# Altium footprint library TO-220.PcbLib: 1 footprints
Each footprint in its own frame and in the unit in brackets; x right, y up, seen from the top. Pads: shape width x height; smd on the part's side, far side on the other; paste and mask are expansions set on the pad; w line width, h text height; cw(c..) or ccw(c..) is an arc to the next point about the centre after c.
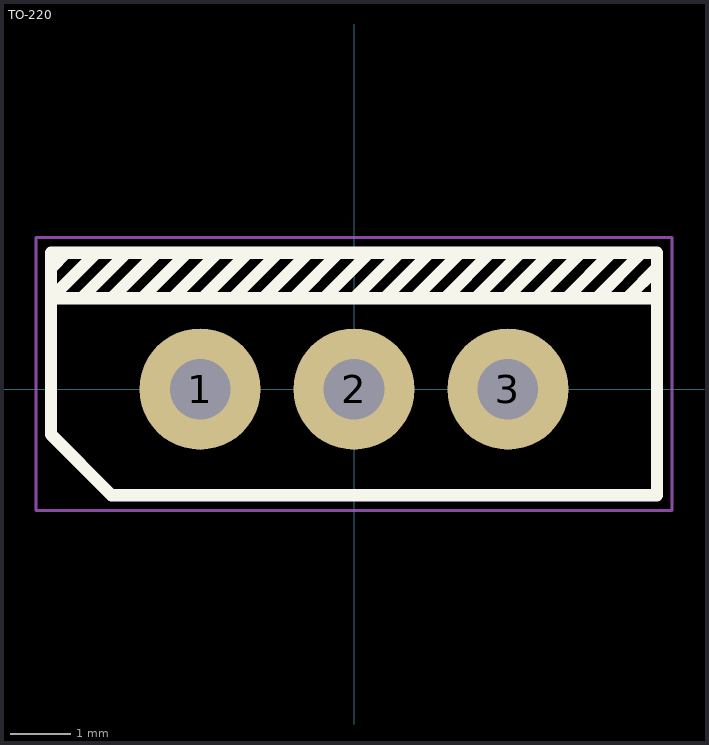
[diagram p0: the footprint, top view; thin cyan lines are the x and y axes]

## TO-220 [mm]
pads (3):
  round 2 hole 1: 1(-2.54,0) 2(0,0) 3(2.54,0)
Top Overlay:
  lines w0.2: -5,2 -4.75,2.25 ; -4.5,1.5 -3.75,2.25 ; -4.25,2.25 -5,1.5 5,1.5 ; -4,1.5 -3.25,2.25 ; -3.5,1.5 -2.75,2.25 ; -3,1.5 -2.25,2.25 ; -2.5,1.5 -1.75,2.25 ; -2,1.5 -1.25,2.25 ; -1.5,1.5 -0.75,2.25 ; -1,1.5 -0.25,2.25 ; -0.5,1.5 0.25,2.25 ; 0,1.5 0.75,2.25 ; 0.5,1.5 1.25,2.25 ; 1,1.5 1.75,2.25 ; 1.5,1.5 2.25,2.25 ; 2,1.5 2.75,2.25 ; 2.5,1.5 3.25,2.25 ; 3,1.5 3.75,2.25 ; 3.5,1.5 4.25,2.25 ; 4,1.5 4.75,2.25 ; 4.5,1.5 5,2 ; -5,-0.75 -4,-1.75 5,-1.75 5,2.25 -5,2.25 -5,-0.75
Mechanical 1:
  lines w0.1: -5,2 -4.75,2.25 ; -4.5,1.5 -3.75,2.25 ; -4.25,2.25 -5,1.5 5,1.5 ; -4,1.5 -3.25,2.25 ; -3.5,1.5 -2.75,2.25 ; -3,1.5 -2.25,2.25 ; -2.5,1.5 -1.75,2.25 ; -2,1.5 -1.25,2.25 ; -1.5,1.5 -0.75,2.25 ; -1,1.5 -0.25,2.25 ; -0.5,1.5 0.25,2.25 ; 0,1.5 0.75,2.25 ; 0.5,1.5 1.25,2.25 ; 1,1.5 1.75,2.25 ; 1.5,1.5 2.25,2.25 ; 2,1.5 2.75,2.25 ; 2.5,1.5 3.25,2.25 ; 3,1.5 3.75,2.25 ; 3.5,1.5 4.25,2.25 ; 4,1.5 4.75,2.25 ; 4.5,1.5 5,2 ; -5,-0.75 -5,2.25 5,2.25 5,-1.75 -4,-1.75 -5,-0.75
Mechanical 2:
  lines w0.05: -5.25,-2 -5.25,2.5 5.25,2.5 5.25,-2 -5.25,-2
  lines w0.1: -0.5,0 0.5,0 ; 0,-0.5 0,0.5
3D body "7508.STEP": height 20, standoff -8.2, extent -5,-1.75 5,2.26